# Altium footprint library UNK_Adafruit_Industries_ESP-12S_eec_MFG.PcbLib: 1 footprints
Each footprint in its own frame and in the unit in brackets; x right, y up, seen from the top. Pads: shape width x height; smd on the part's side, far side on the other; paste and mask are expansions set on the pad; w line width, h text height; cw(c..) or ccw(c..) is an arc to the next point about the centre after c.
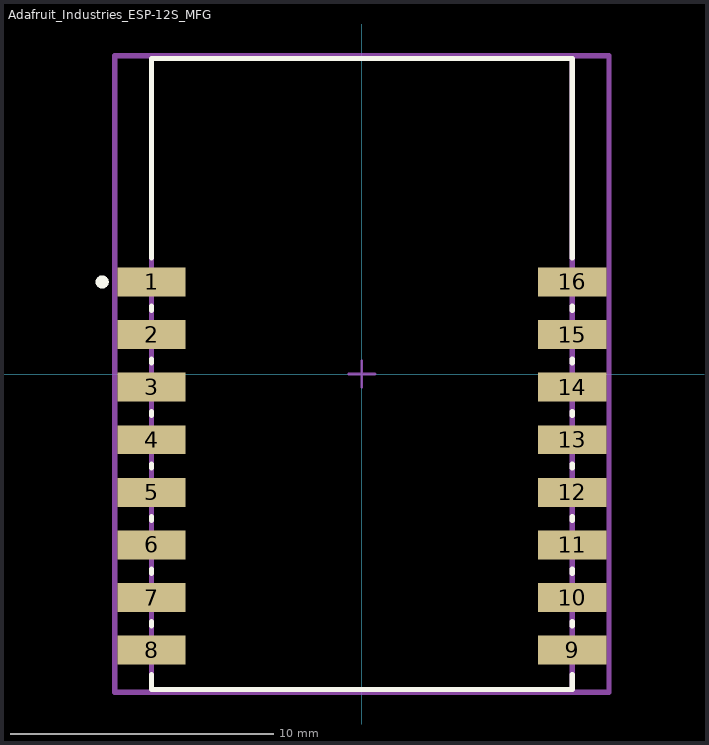
[diagram p0: the footprint, top view; thin cyan lines are the x and y axes]

## Adafruit_Industries_ESP-12S_MFG [mm]
pads (16):
  rect 2.6x1.1 smd paste+0 mask+0: 1(-8,3.5) 2(-8,1.5) 3(-8,-0.5) 4(-8,-2.5) 5(-8,-4.5) 6(-8,-6.5) 7(-8,-8.5) 8(-8,-10.5) 9(8,-10.5) 10(8,-8.5) 11(8,-6.5) 12(8,-4.5) 13(8,-2.5) 14(8,-0.5) 15(8,1.5) 16(8,3.5)
Top Overlay:
  circle w0.25: c-9.875,3.5 r0.125
  lines w0.2: -8,-11.425 -8,-12 8,-12 8,-11.425 ; -8,-9.575 -8,-9.425 ; -8,-7.575 -8,-7.425 ; -8,-5.575 -8,-5.425 ; -8,-3.575 -8,-3.425 ; -8,-1.575 -8,-1.425 ; -8,0.425 -8,0.575 ; -8,2.425 -8,2.575 ; -8,4.425 -8,12 8,12 8,4.425 ; 8,-9.575 8,-9.425 ; 8,-7.575 8,-7.425 ; 8,-5.575 8,-5.425 ; 8,-3.575 8,-3.425 ; 8,-1.575 8,-1.425 ; 8,0.425 8,0.575 ; 8,2.425 8,2.575
Mechanical 10:
  lines w0.2: -9.4,-12.1 9.4,-12.1 9.4,12.1 -9.4,12.1 -9.4,-12.1
  text ".Designator" at 0,0 h1
Mechanical 12:
  lines w0.2: -8,-12 8,-12 8,12 -8,12 -8,-12
Mechanical 15:
  lines w0.1: -0.5,0 0.5,0 ; 0,-0.5 0,0.5
  lines w0.2: -9.4,-12.1 9.4,-12.1 9.4,12.1 -9.4,12.1 -9.4,-12.1
3D body "UNK_Adafruit_Industries_ESP-12S_eec.STEP": height 0.25, standoff 0, extent -9.4,-12.1 9.4,12.1